# EAGLE library part 710X (library switch)
710x with optional V2 or V3 mounting bracket.
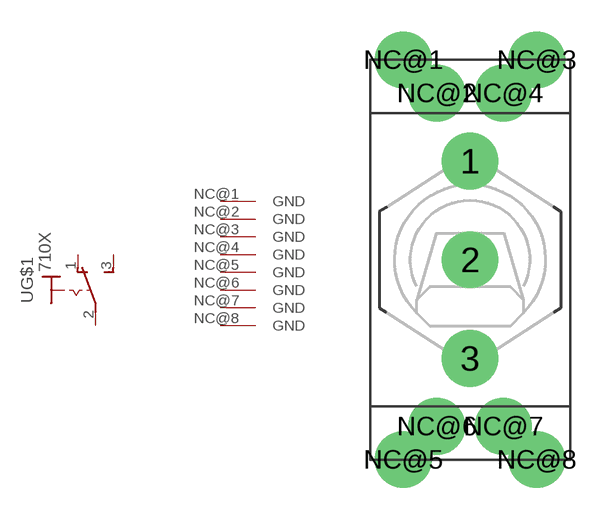
[diagram p12: symbol with the pads of 7109MD9V3; footprint 7109MD9V3]

Designator prefix -; gates G$1=KS-U G$2=NC8

## 710X  [7109MD9V3]
1  G$1:O  pas
2  G$1:P  pas
3  G$1:S  pas
NC@1  G$2:GND  pwr
NC@2  G$2:GND  pwr
NC@3  G$2:GND  pwr
NC@4  G$2:GND  pwr
NC@5  G$2:GND  pwr
NC@6  G$2:GND  pwr
NC@7  G$2:GND  pwr
NC@8  G$2:GND  pwr

## Footprint 7109MD9V3 (pad centres in mm)
7101 footprint for V2, V3 mounting brackets.
drill 1.803 round: 1 0,4.699; 2 0,0; 3 0,-4.699; NC@1 -3.175,9.525; NC@2 -1.587,7.938; NC@3 3.175,9.525; NC@4 1.587,7.938; NC@5 -3.175,-9.525; NC@6 -1.587,-7.938; NC@7 1.587,-7.938; NC@8 3.175,-9.525